# Altium footprint library HS317.PcbLib: 1 footprints
Each footprint in its own frame and in the unit in brackets; x right, y up, seen from the top. Pads: shape width x height; smd on the part's side, far side on the other; paste and mask are expansions set on the pad; w line width, h text height; cw(c..) or ccw(c..) is an arc to the next point about the centre after c.
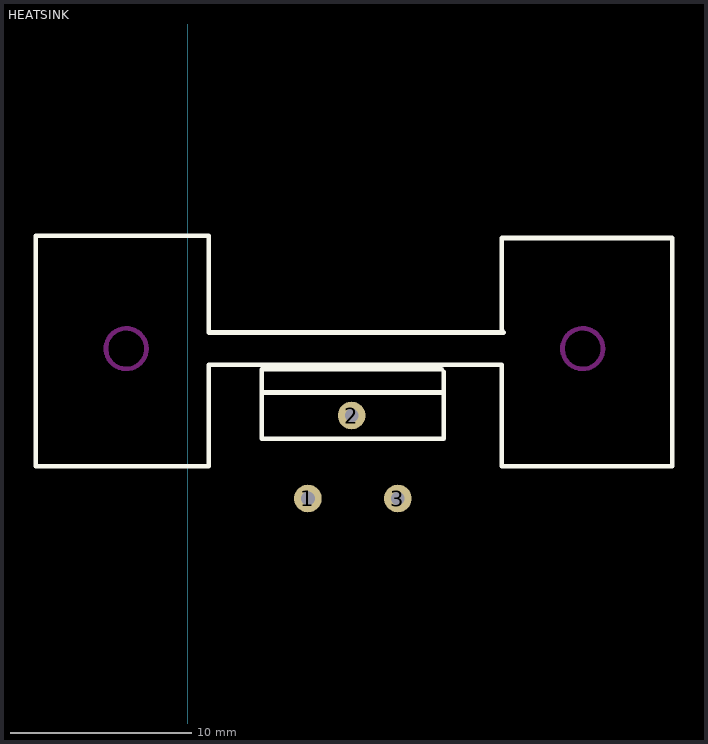
[diagram p0: the footprint, top view; thin cyan lines are the x and y axes]

## HEATSINK [mil]
pads (3):
  round 60 hole 30: 1(260,-1485) 2(355,-1305) 3(455,-1485)
Top Overlay:
  lines w10: 160,-1255 550,-1255 ; 550,-1205 160,-1205 160,-1355 555,-1355 555,-1310 ; 555,-1330 555,-1210 ; -330,-1415 45,-1415 45,-1195 680,-1195 680,-1415 1050,-1415 1050,-920 680,-920 680,-1120 685,-1125 45,-1125 45,-915 -330,-915 -330,-1415
Keep-Out Layer:
  circle w10: c856,-1160 r44
  circle w10: c-134,-1160 r44